# Altium integrated library Header.IntLib: 1 symbol
Pins are listed as number, name and electrical type; pins without a type are passive.

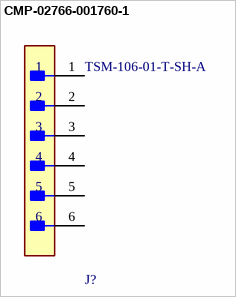
[diagram p0: symbol CMP-02766-001760-1]

## CMP-02766-001760-1
designator J?, comment TSM-106-01-T-SH-A
.025 SQ. TERMINAL STRIPS; Number of Contacts: 6; Gender: Male; Pitch: 2.54mm; Max Current Rating: 7A; Max Voltage Rating (AC): 475V; Depth: 10.92mm; Length: 15.24mm; Radiation Hardening: No; Housing Color: Black; RoHS Compliant: Yes; Lead Free: Lead Free; Termination: Solder; Min Operating Temperature: -55°C; Orientation: Right Angle; Housing Material: Polymer; Contact Material: Bronze; Max Operating Temperature: 105°C; Contact Plating: Tin; Packaging: Bulk; Number of Rows: 1
footprint FP-TSM-106-01-T-SH-A-MFG
pins: 1, 2, 3, 4, 5, 6